# Altium footprint library QFN-32.PcbLib: 1 footprints
Each footprint in its own frame and in the unit in brackets; x right, y up, seen from the top. Pads: shape width x height; smd on the part's side, far side on the other; paste and mask are expansions set on the pad; w line width, h text height; cw(c..) or ccw(c..) is an arc to the next point about the centre after c.
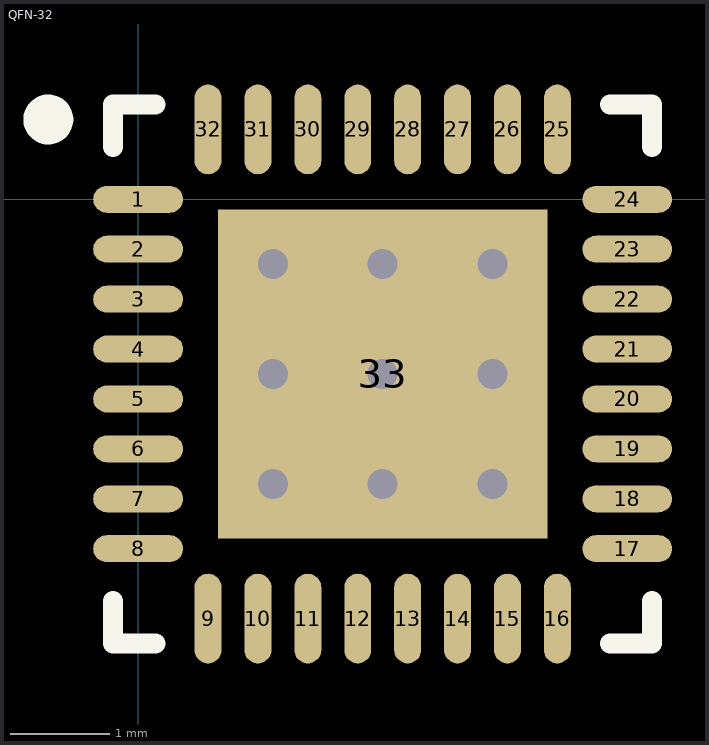
[diagram p0: the footprint, top view; thin cyan lines are the x and y axes]

## QFN-32 [mm] "QFN, 32-Leads, Body 5,00x5,00mm, Pitch 0,50mm, Thermal Pad 3,10x3,10mm, IPC Medium Density"
height 0.75
pads (33):
  oval 0.9x0.27 smd: 1(0,0) 2(0,-0.5) 3(0,-1) 4(0,-1.5) 5(0,-2) 6(0,-2.5) 7(0,-3) 8(0,-3.5) 17(4.9,-3.5) 18(4.9,-3) 19(4.9,-2.5) 20(4.9,-2) 21(4.9,-1.5) 22(4.9,-1) 23(4.9,-0.5) 24(4.9,0)
  oval 0.27x0.9 smd: 9(0.7,-4.2) 10(1.2,-4.2) 11(1.7,-4.2) 12(2.2,-4.2) 13(2.7,-4.2) 14(3.2,-4.2) 15(3.7,-4.2) 16(4.2,-4.2) 25(4.2,0.7) 26(3.7,0.7) 27(3.2,0.7) 28(2.7,0.7) 29(2.2,0.7) 30(1.7,0.7) 31(1.2,0.7) 32(0.7,0.7)
  rect 3.3x3.3 smd: 33(2.45,-1.75)
via 3.55,-2.85 diameter 0.6 hole 0.3
via 2.45,-2.85 diameter 0.6 hole 0.3
via 1.35,-2.85 diameter 0.6 hole 0.3
via 3.55,-1.75 diameter 0.6 hole 0.3
via 2.45,-1.75 diameter 0.6 hole 0.3
via 1.35,-1.75 diameter 0.6 hole 0.3
via 3.55,-0.65 diameter 0.6 hole 0.3
via 2.45,-0.65 diameter 0.6 hole 0.3
via 1.35,-0.65 diameter 0.6 hole 0.3
Top Overlay:
  circle w0.25: c-0.9,0.8 r0.125
  lines w0.2: -0.25,-4.025 -0.25,-4.45 0.175,-4.45 ; -0.25,0.525 -0.25,0.95 0.175,0.95 ; 4.725,-4.45 5.15,-4.45 5.15,-4.025 ; 4.725,0.95 5.15,0.95 5.15,0.525
3D body "QFN-32.step": height 0.75, standoff 0, extent -0.15,-4.35 5.05,0.85